# EAGLE library part LM73 (library _RoweTel)
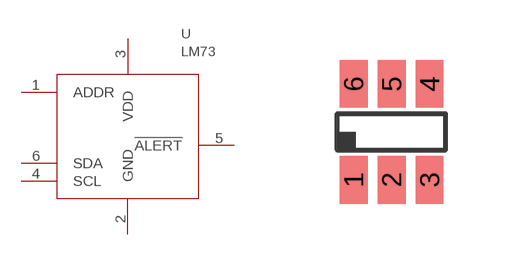
[diagram p17: symbol with the pads of SOT23-6; footprint SOT23-6]

Designator prefix U

## LM73  [SOT23-6]
1  ADDR
2  GND
3  VDD
4  SCL
5  !ALERT
6  SDA

## Footprint SOT23-6 (pad centres in mm)
smd 0.7 x 1.2: 1 -0.95,-1.2; 2 0,-1.2; 3 0.95,-1.2; 4 0.95,1.2; 5 0,1.2; 6 -0.95,1.2